# EAGLE library part 171013201 (library WPME-VDMM)
MagI³C-VDMM Variable Step Down MicroModule Characteristics Low conducted and radiated EMI (compliant to EN55022 class B / CISPR-22 LGA-6EP Very low profile micropackage Ideal for space constrained applications 3 solder cycles supported LGA-8EP Very low profile micropackage Ideal for space constrained applications For direct connection to 24 V industrial voltage network 3 solder cycles supported LGA-12 Very low profile micro package Ideal for space constrained applications For direct connection to 48 V industrial voltage network Spread spectrum for optimized EMI performance 2 solder cycles supported Applications Point-of-Load DC/DC applications Replacement for linear regulators Interface and microcontroller supply DSP and FPGA power supply auxiliary voltages Portable instruments Battery powered equipment Sensors <https://www.we-online.com/components/media/o109063v209%20VDMM_Group.jpg> Details see: www.we-online.com/en/components/products/MAGIC-VDMM <www.we-online.com/catalog/MAGIC-VDMM/?utm_source=eagle_model&utm_medium=description_link&utm_campaign=eisos_eagle> Created By Ella Wu 2026-05-08 2026 (C) Würth Elektronik
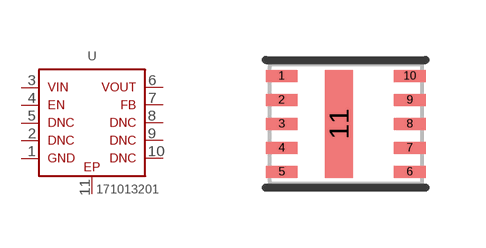
[diagram p2: symbol with the pads of WPME-VDMM_LGA-10_L3.8W3H1.8; footprint WPME-VDMM_LGA-10_L3.8W3H1.8]

Designator prefix U

## 171013201 (DATASHEET-URL: https://www.we-online.com/redexpert/spec/171013201?ae; HEIGHT: 1.8mm; I-OUTPUT: 1A; LENGTH: 3.8mm; MOUNT: SMT; PART-NUMBER: 171013201; SIZE: LGA-10; V-INPUT: 4.5 - 32V; V-OUTPUT: 1.2 - 6V; VALUE: 4.5 - 32V, 1.2 - 6V, 1A; WIDTH: 3mm)  [WPME-VDMM_LGA-10_L3.8W3H1.8]
1  1  pas
2  2  pas
3  3  pas
4  4  pas
5  5  pas
6  6  pas
7  7  pas
8  8  pas
9  9  pas
10  10  pas
11  11  pas

## Footprint WPME-VDMM_LGA-10_L3.8W3H1.8 (pad centres in mm)
smd 0.79 x 0.3: 1 -1.605,1.2; 2 -1.605,0.6; 3 -1.605,0; 4 -1.605,-0.6; 5 -1.605,-1.2; 6 1.605,-1.2; 7 1.605,-0.6; 8 1.605,0; 9 1.605,0.6; 10 1.605,1.2
smd 0.7 x 2.7: 11 -0.17,0